# Altium integrated library GRM188R60G106ME47J.IntLib: 1 symbol
Pins are listed as number, name and electrical type; pins without a type are passive.

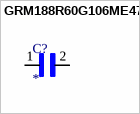
[diagram p0: symbol GRM188R60G106ME47J]

## GRM188R60G106ME47J
designator C?
CAP CER 10UF 4V 20% X5R 0603; MP: GRM188R60G106ME47J; Package: None; Price: None; Value: *; Availability: Unavailable
footprint CAPC1608X90N
pins: 1, 2